# EAGLE library part UDA1334A (library uda1334a)
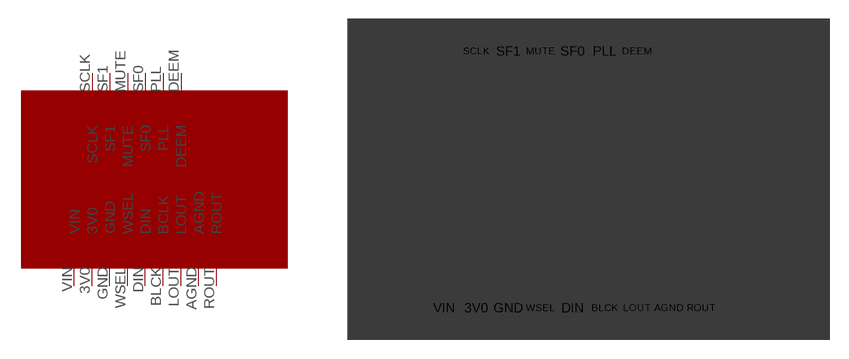
[diagram p0: symbol with the pads of UDA1334A; footprint UDA1334A]

Designator prefix -

## UDA1334A  [UDA1334A]
3V0  3V0
AGND  AGND
BLCK  BCLK
DEEM  DEEM
DIN  DIN
GND  GND
LOUT  LOUT
MUTE  MUTE
PLL  PLL
ROUT  ROUT
SCLK  SCLK
SF0  SF0
SF1  SF1
VIN  VIN
WSEL  WSEL

## Footprint UDA1334A (pad centres in mm)
drill 1.143 long: 3V0 -8.89,-10.16; AGND 6.35,-10.16; BLCK 1.27,-10.16; DEEM 3.81,10.16; DIN -1.27,-10.16; GND -6.35,-10.16; LOUT 3.81,-10.16; MUTE -3.81,10.16; PLL 1.27,10.16; ROUT 8.89,-10.16; SCLK -8.89,10.16; SF0 -1.27,10.16; SF1 -6.35,10.16; VIN -11.43,-10.16; WSEL -3.81,-10.16